# EAGLE library part MPL115A1 (library std-components-pir)
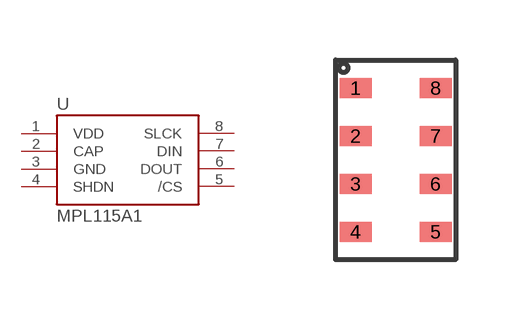
[diagram p1: symbol with the pads of MPL115A1; footprint MPL115A1]

Designator prefix -

## MPL115A1_SPI  [MPL115A1]
1  VDD  pwr
2  CAP  pwr
3  GND  pwr
4  SHDN  in
5  /CS  in
6  DOUT  nc
7  DIN
8  SLCK

## Footprint MPL115A1 (pad centres in mm)
smd 0.8 x 0.5: 1 0.5,4.3; 2 0.5,3.1; 3 0.5,1.9; 4 0.5,0.7; 5 2.5,0.7; 6 2.5,1.9; 7 2.5,3.1; 8 2.5,4.3